# Altium schematic symbol library led.SchLib: 18 symbols
Pins are listed as number, name and electrical type; pins without a type are passive.

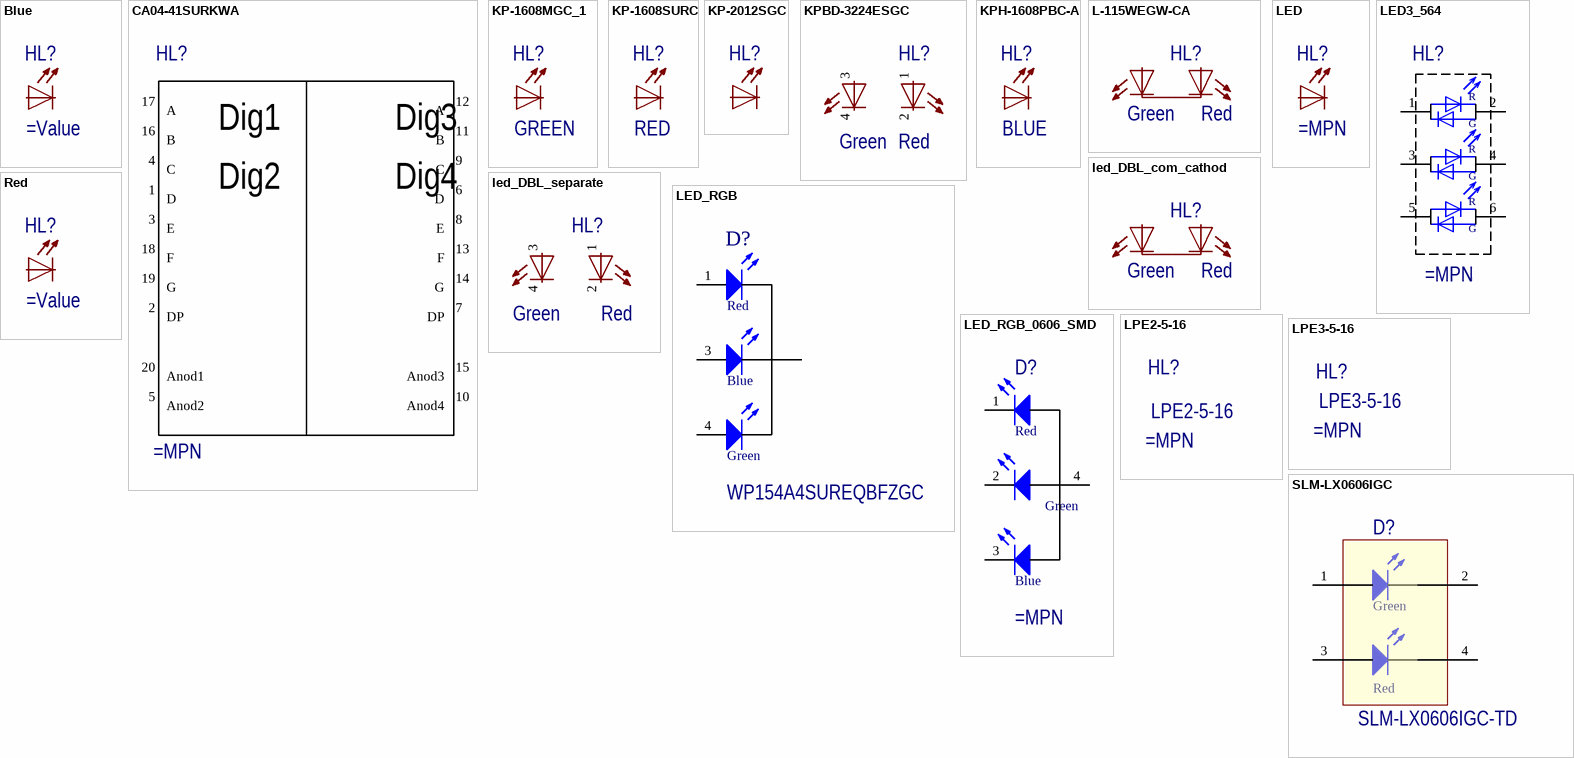
[diagram p0: symbols Blue to SLM-LX0606IGC]

## Blue
designator HL?
pins: 1, 2

## CA04-41SURKWA
designator HL?
pins: 1 D, 2 DP, 3 E, 4 C, 5 Anod2, 6 D, 7 DP, 8 E, 9 C, 10 Anod4, 11 B, 12 A, 13 F, 14 G, 15 Anod3, 16 B, 17 A, 18 F, 19 G, 20 Anod1
1 alternate drawing of the same symbol
text: Dig1; Dig3; Dig2; Dig4

## KP-1608MGC_1
designator HL?, comment GREEN
KP-1608MGC, Светодиод зеленый 70мКд SMD0603Kingbright
pins: 1, 2

## KP-1608SURC
designator HL?, comment RED
KP-1608SURC, Светодиод красный 150 мКд SMD0603
pins: 1, 2

## KP-2012SGC
designator HL?, comment Green  (value not drawn)
Светодиод KP-2012SGC Kingbright
pins: 1, 2

## KPBD-3224ESGC
designator HL?, comment Green Red  (value not drawn)
Bi-Color Kingbright SMT Chip LED 3224 (1210) Package
pins: 1, 2, 3, 4
text: Green; Red

## KPH-1608PBC-A
designator HL?, comment BLUE
KPH-1608PBC-A, Светодиод голубой 1.6х0.8мм
pins: 1, 2

## L-115WEGW-CA
designator HL?, comment Green Red  (value not drawn)
Bi-Color Indicator Lamp L-115WEGW-CA Kingbright
pins: 1, 2, 3
text: Green; Red

## LED
designator HL?
pins: 1, 2

## LED3_564
designator HL?
pins: 1 A, 2 C, 3 A, 4 C, 5 A, 6 C
1 alternate drawing of the same symbol
text: R; G

## led_DBL_com_cathod
designator HL?
pins: 1, 2, 3
text: Green; Red

## led_DBL_separate
designator HL?
pins: 1, 2, 3, 4
text: Green; Red

## LED_RGB
designator D?, comment WP154A4SUREQBFZGC
ComponentLink1URL: http://optoelectronics.liteon.com/upload/download/DS22-2000-253/S_110_LTST-C230KRKT.pdf; ComponentLink1Description: http://optoelectronics.liteon.com/upload/download/DS22-2000-253/S_110_LTST-C230KRKT.pdf
pins: 1 A, 2 K, 3 A, 4 A
text: Red; Blue; Green

## LED_RGB_0606_SMD
designator D?
ComponentLink1URL: http://optoelectronics.liteon.com/upload/download/DS22-2000-253/S_110_LTST-C230KRKT.pdf; ComponentLink1Description: http://optoelectronics.liteon.com/upload/download/DS22-2000-253/S_110_LTST-C230KRKT.pdf
pins: 1, 2, 3, 4
text: Red; Green; Blue

## LPE2-5-16
designator HL?
1 alternate drawing of the same symbol

## LPE3-5-16
designator HL?
1 alternate drawing of the same symbol

## Red
designator HL?
pins: 1, 2

## SLM-LX0606IGC
designator D?, comment SLM-LX0606IGC-TD
ComponentLink1URL: http://optoelectronics.liteon.com/upload/download/DS22-2000-253/S_110_LTST-C230KRKT.pdf; ComponentLink1Description: http://optoelectronics.liteon.com/upload/download/DS22-2000-253/S_110_LTST-C230KRKT.pdf
pins: 1 A, 2 K, 3 A, 4 A
text: Green; Red